# EAGLE library part ARDUINO_NANO-REMOVED (library myFab)
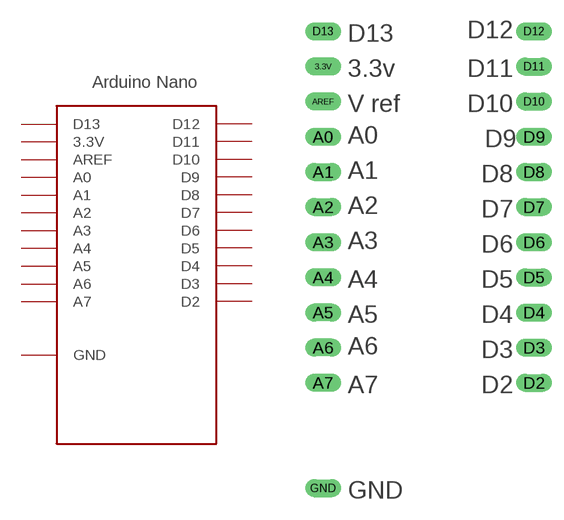
[diagram p6: symbol with the pads of ARDUINO_NANO-REMOVED; footprint ARDUINO_NANO-REMOVED]

Designator prefix -

## ARDUINO_NANO-REMOVED  [ARDUINO_NANO-REMOVED]
3.3V  3.3V
A0  A0
A1  A1
A2  A2
A3  A3
A4  A4
A5  A5
A6  A6
A7  A7
AREF  AREF
D2  D2
D3  D3
D4  D4
D5  D5
D6  D6
D7  D7
D8  D8
D9  D9
D10  D10
D11  D11
D12  D12
D13  D13
GND  GND

## Footprint ARDUINO_NANO-REMOVED (pad centres in mm)
drill 0.8 long: 3.3V -10.16,24.13; A0 -10.16,19.05; A1 -10.16,16.51; A2 -10.16,13.97; A3 -10.16,11.43; A4 -10.16,8.89; A5 -10.16,6.35; A6 -10.16,3.81; A7 -10.16,1.27; AREF -10.16,21.59; D2 5.08,1.27; D3 5.08,3.81; D4 5.08,6.35; D5 5.08,8.89; D6 5.08,11.43; D7 5.08,13.97; D8 5.08,16.51; D9 5.08,19.05; D10 5.08,21.59; D11 5.08,24.13; D12 5.08,26.67; D13 -10.16,26.67; GND -10.16,-6.35